# Altium schematic symbol library Sch_Proteccion.SchLib: 1 symbol
Pins are listed as number, name and electrical type; pins without a type are passive.

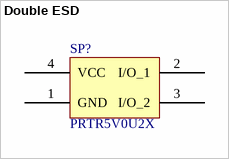
[diagram p0: symbol Double ESD]

## Double ESD
designator SP?, comment PRTR5V0U2X
Double rail-to-rail ESD protection diode; Encapsulado: SOT143B; Link: *; Fabricante: *
footprint SOT143B
pins: 1 GND, 2 I/O_1, 3 I/O_2, 4 VCC